# Altium schematic symbol library Schlib1.SchLib: 185 symbols (part 2 of 2)
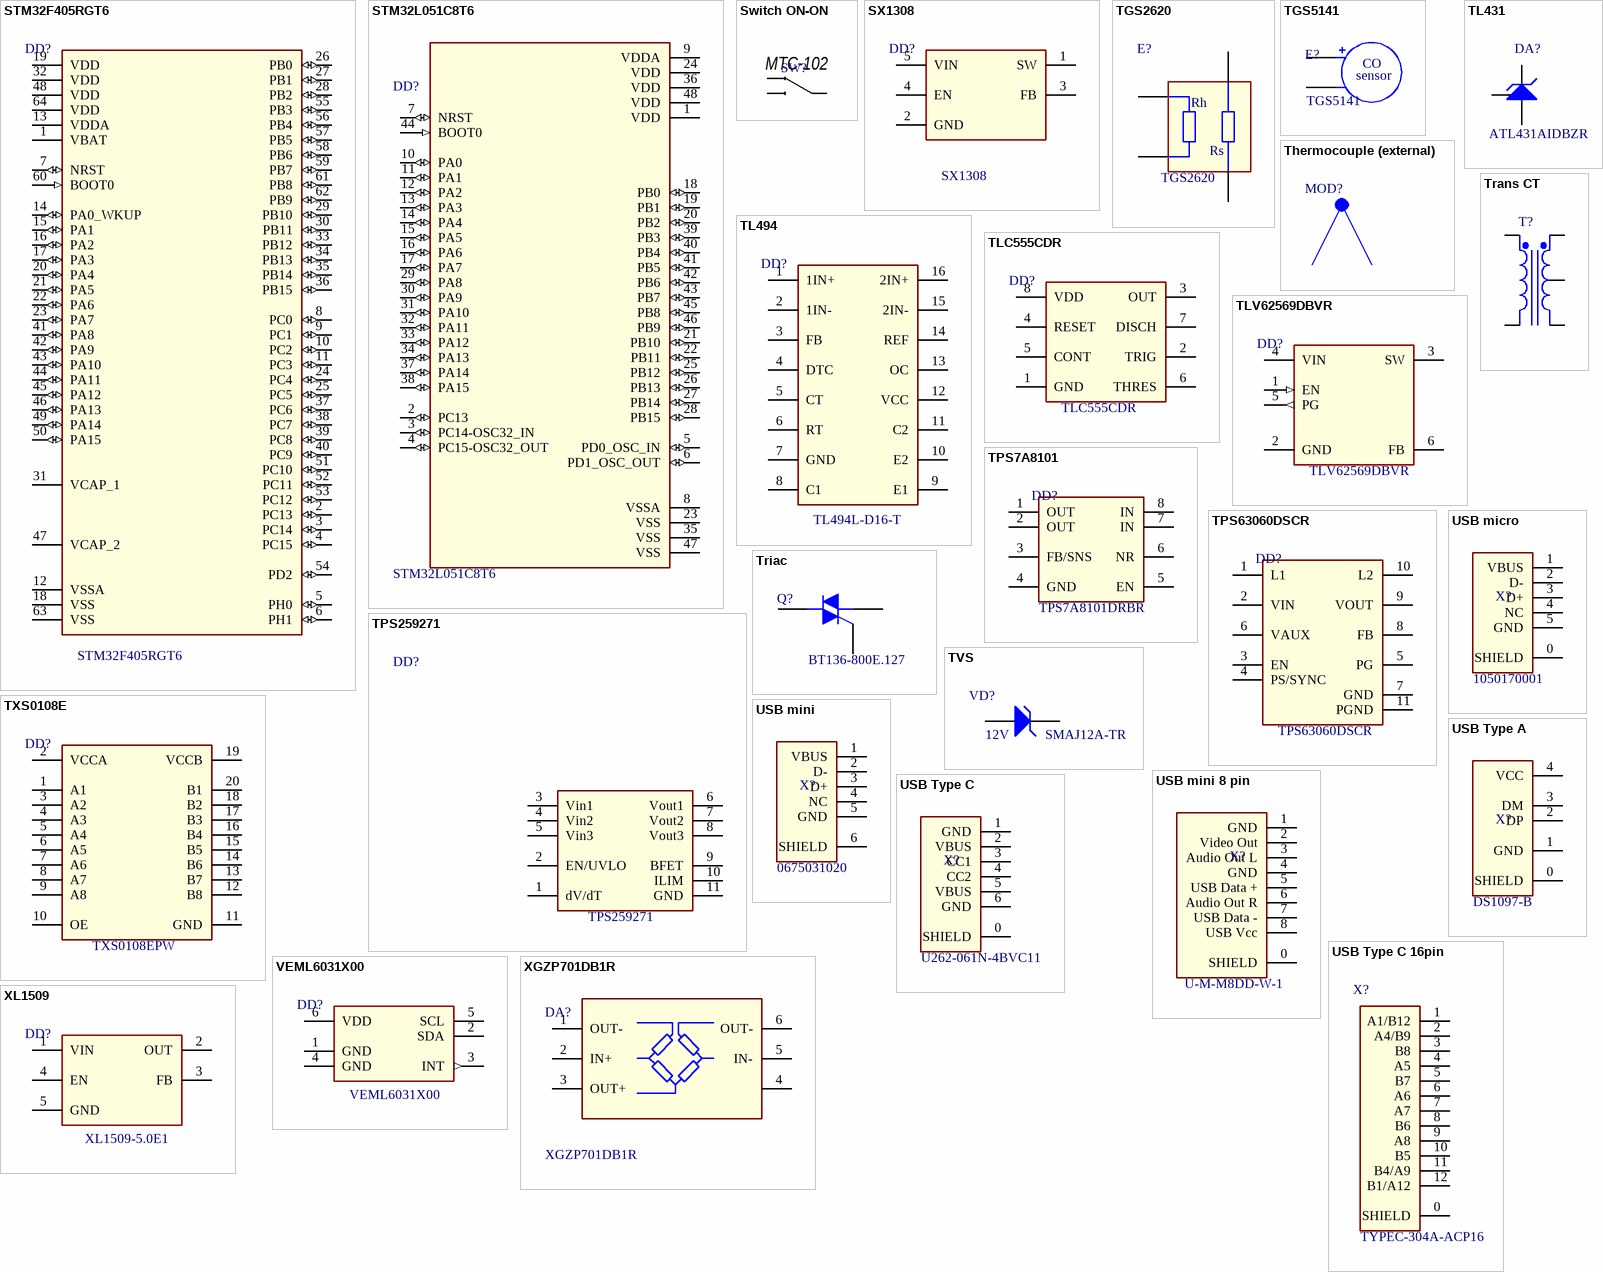
[diagram p6: symbols STM32F405RGT6 to XL1509]

## TPS7A8101
designator DD?  PartNumber: TPS7A8101DRBR
IC, Low-Noise, Wide-Bandwidth, High PSRR, / Low-Dropout 1-A Linear Regulator; Manufacturer: Texas Instruments; Package: SON-8
footprint 8-SON; pin to pad 4>4+0
pins: 1 OUT, 2 OUT, 3 FB/SNS, 4 GND, 5 EN, 6 NR, 7 IN, 8 IN

## TPS63060DSCR
designator DD?  PartNumber: TPS63060DSCR
IC, High Input Voltage, Buck-Boost Converter With 2-A Switch Current; Manufacturer: Texas Instruments; Package: WSON-10
footprint 10-WSON
pins: 1 L1, 2 VIN, 3 EN, 4 PS/SYNC, 5 PG, 6 VAUX, 7 GND, 8 FB, 9 VOUT, 10 L2, 11 PGND

## TPS259271
designator DD?  PartNumber: TPS259271
IC, eFuse; Manufacturer: Texas Instruments; ComponentLink1URL: http://www.ti.com/lit/ds/symlink/tps2h160-q1.pdf; ComponentLink1Description: Datasheet Link; Package: VSON-10
footprint 10-VSON
pins: 1 dV/dT, 2 EN/UVLO, 3 Vin1, 4 Vin2, 5 Vin3, 6 Vout1, 7 Vout2, 8 Vout3, 9 BFET, 10 ILIM, 11 GND

## Trans CT
designator T?
Center-Tapped Transformer B66361G0000X187+B66362B1014T001; Manufacturer: ProCOT; PartNumber: TRANS_35:8+8_400W; Package: B66362B1014T001
footprint TRANS: ETD34 Horizontal China; pin to pad 8>8+9 10>10+11 12>12+13
pins: 3 Pri+, 5 Pri-, 8 Sec-, 10 SecCT, 12 Sec+

## Triac
designator Q?  PartNumber: BT136-800E.127
Triac; Manufacturer: WeEn Semiconductors; Package: TO-220; ComponentLink1Description: Manufacturer Link; ComponentLink1URL: http://www.motorola.com/
footprint TO-220
pins: 1 M1, 2 M2, 3 G

## TVS
designator VD?  value 12V  PartNumber: SMAJ12A-TR
Diode, TVS, 12V; Manufacturer: STMicroelectronics; Package: SMA
footprint DIODE: SOD-323
footprint DIODE: SOD-523
footprint DIODE: SOD-523
pins: 1 A, 2 C

## TXS0108E
designator DD?  PartNumber: TXS0108EPW
IC, Voltage Translator; Manufacturer: Texas Instruments; Package: TSSOP-20
footprint 20-TSSOP (pitch 0.65 mm)
pins: 1 A1, 2 VCCA, 3 A2, 4 A3, 5 A4, 6 A5, 7 A6, 8 A7, 9 A8, 10 OE, 11 GND, 12 B8, 13 B7, 14 B6, 15 B5, 16 B4, 17 B3, 18 B2, 19 VCCB, 20 B1

## USB micro
designator X?  PartNumber: 1050170001
USB micro SMD; Manufacturer: Molex; Package: 1050170001
footprint CON: 1050170001
pins: 0 SHIELD, 1 VBUS, 2 D-, 3 D+, 4 NC, 5 GND

## USB mini
designator X?  PartNumber: 0675031020
USB mini SMD; Manufacturer: Molex; Package: 0675031020
footprint CON: 0675031020
footprint CON: 0675031020 СUT_PADS
pins: 1 VBUS, 2 D-, 3 D+, 4 NC, 5 GND, 6 SHIELD

## USB mini 8 pin
designator X?  PartNumber: U-M-M8DD-W-1
USB mini 8 pin; Manufacturer: Korean Hroparts Elec; Package: U05-BFXX5X-012
footprint CON: U-M-M8DD-W-1
pins: 0 SHIELD, 1 GND, 2 Video Out, 3 Audio Out L, 4 GND, 5 USB Data +, 6 Audio Out R, 7 USB Data -, 8 USB Vcc

## USB Type A
designator X?  PartNumber: DS1097-B
USB Type A PCB Connector Right Angle; Manufacturer: Connfly electronic (Zhenqin); Package: 0480370001
footprint CON: DS1097-B (USB)
footprint CON: DS1095 W-R; pin to pad 1>4 2>3 3>2 4>1
pins: 0 SHIELD, 1 GND, 2 DP, 3 DM, 4 VCC

## USB Type C
designator X?  PartNumber: U262-061N-4BVC11
USB type C SMD; Manufacturer: XKB Connectivity; Package: U262-061N-4BVC11
footprint CON: U262-061N-4BVC11
pins: 0 SHIELD, 1 GND, 2 VBUS, 3 CC1, 4 CC2, 5 VBUS, 6 GND

## USB Type C 16pin
designator X?  PartNumber: TYPEC-304A-ACP16
Connector USB Type-C 16 pin; Manufacturer: XUNPU; Package: TYPE-C_16pin_BLACK
footprint CON: TYPE-C_16pin_BLACK
footprint CON: TYPE-C_16pin_GREEN
footprint CON: TYPE-C_16pin_SMD_BLACK
pins: 0 SHIELD, 1 A1/B12, 2 A4/B9, 3 B8, 4 A5, 5 B7, 6 A6, 7 A7, 8 B6, 9 A8, 10 B5, 11 B4/A9, 12 B1/A12

## VEML6031X00
designator DD?  PartNumber: VEML6031X00
IC, High Accuracy Ambient Light Sensor; Manufacturer: Vishay Semiconductors; Package: SMD 2.67 x 2.45 x 0.6
footprint VEML6031X00
pins: 1 GND (power), 2 SDA, 3 INT (out), 4 GND (power), 5 SCL, 6 VDD

## XGZP701DB1R
designator DA?  PartNumber: XGZP701DB1R
Pressure sensor; Manufacturer: CFSensor; Package: XGZP160
footprint SENS: XGZP160
footprint SENS: XGZP160 PCB
footprint SENS: XGZP163
footprint SENS: XGZP163 PCB
pins: 1 OUT-, 2 IN+, 3 OUT+, 4, 5 IN-, 6 OUT-

## XL1509
designator DD?  PartNumber: XL1509-5.0E1
IC, Buck DC to DC Converter; Manufacturer: Xinlong Semiconductor Technology; Package: SOIC-8
footprint 8-SOIC; pin to pad 5>5+6+7+8
pins: 1 VIN, 2 OUT (power), 3 FB (power), 4 EN (power), 5 GND (power)